# Altium integrated library A_Passive.IntLib: 18 symbols
Pins are listed as number, name and electrical type; pins without a type are passive.

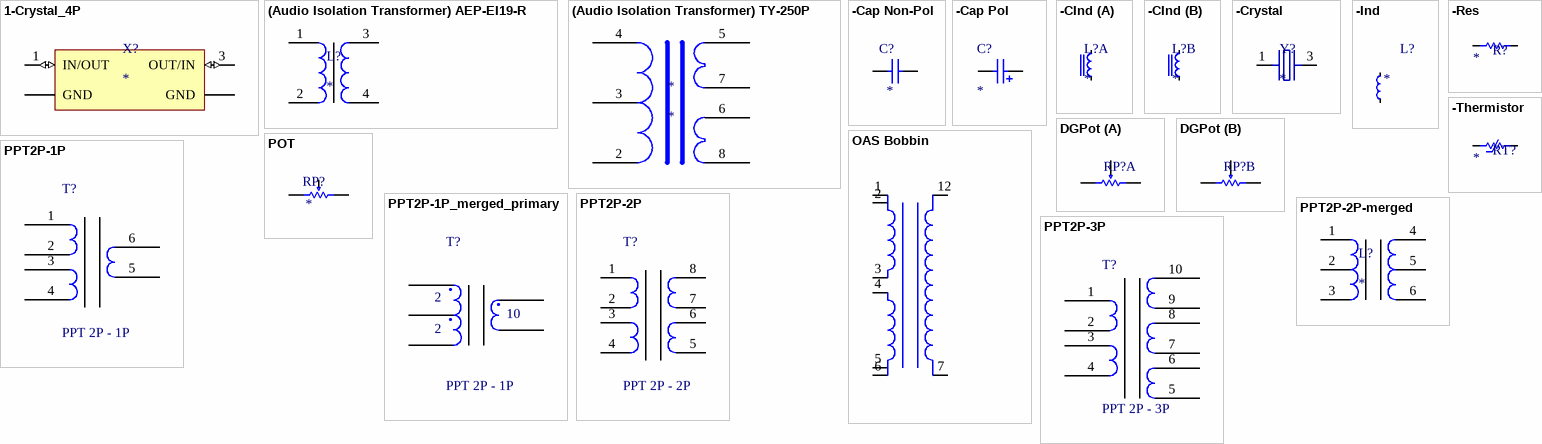
[diagram p0: symbols 1-Crystal_4P to PPT2P-3P]

## 1-Crystal_4P
designator X?
footprint XTAL_ECS-163.84-10-36-JGN-TR
pins: 1 IN/OUT (io), 2 GND (power), 3 OUT/IN (io), 4 GND (power)

## (Audio Isolation Transformer) AEP-EI19-R
designator L?
footprint AEP-EI19-R
pins: 1, 2, 3, 4

## (Audio Isolation Transformer) TY-250P
designator *
footprint TY-250P
pins: 2, 3, 4, 5, 6, 7, 8

## -Cap Non-Pol
designator C?
=Value; Voltage: *; Dielectric: *; Tol: *; Value: *
footprint C-IDK (5mm box - 0805 ceramic)
footprint C_BF_TH_15
footprint Size_0402_L (Chip Resistor, Body 1.0x0.5mm, IPC High Density)
footprint Size_0402_N (Chip Resistor, Body 1.0x0.5mm, IPC Medium Density)
footprint Size_0603_L (Chip Resistor, Body 1.6x0.8mm, IPC High Density)
footprint Size_0603_N (Chip Resistor, Body 1.6x0.8mm, IPC Medium Density)
footprint Size_0805_L (Chip Resistor, Body 2.0x1.3mm, IPC High Density)
footprint Size_0805_N (Chip Resistor, Body 2.0x1.3mm, IPC Medium Density)
footprint Size_0805_N - ALT (Narrower Pad Width, Chip Resistor, Body 2.0x1.3mm, IPC Medium Density)
footprint Size_1206_L (Chip Resistor, Body 3.2x1.6mm, IPC High Density)
footprint Size_1206_N (Chip Resistor, Body 3.2x1.6mm, IPC Medium Density)
footprint Size_1210_L (Chip Resistor, Body 3.2x2.5mm, IPC High Density)
footprint Size_1210_N (Chip Resistor, Body 3.2x2.5mm, IPC Medium Density)
footprint Size_2010_2512_N
footprint Size_2010_N
footprint Size_2512_N (Chip Resistor, 2-Leads, Body 7.62x3.17mm, IPC Medium Density)
footprint Vishay_HVCC
footprint Size_0402_N2 (Chip Resistor, Body 1.0x0.5mm, IPC Medium Density)
footprint Size_0805_N2 (Narrower Pad Width, Chip Resistor, Body 2.0x1.3mm, IPC Medium Density)
footprint TH-22.5x26Lx11W
footprint TH-15x18.5Lx7.5W
pins: 1, 2

## -Cap Pol
designator C?
CAP, CER; Voltage: *; Value: *
footprint CAP 0603_N (Chip Capacitor, Body 1.6x0.8mm, Height 0.55mm, IPC Medium Density)
footprint CAP 0805_N (Chip Capacitor, Body 2.0x1.2mm, Height 0.75mm, IPC Medium Density)
footprint CAP 1206_N (Chip Capacitor, Body 3.2x1.6mm, Height 0.75mm, IPC Medium Density)
footprint CAP 1210_N (Chip Capacitor, Body 3.2x2.5mm, Height 0.7mm, IPC Medium Density)
footprint CAP 0603_L (Chip Capacitor, Body 1.6x0.8mm, Height 0.55mm, IPC High Density)
footprint CAP 0805_L (Chip Capacitor, Body 2.0x1.2mm, Height 0.75mm, IPC High Density)
footprint CAP 1206_L (Chip Capacitor, Body 3.2x1.6mm, Height 0.75mm, IPC High Density)
footprint CAP 1210_L (Chip Capacitor, Body 3.2x2.5mm, Height 0.7mm, IPC High Density)
footprint CAPAE110103X103N (Aluminum Electrolytic Capacitor, Body 11.00x10.30x10.30mm, IPC Medium Density)
footprint TH_Cap_1.5x4
footprint TH_Cap_1.5x4_wide
footprint TH_Cap_6x11x2.5
footprint TH CAP AL-6.3X11MM-A1K2 (Aluminum Electrolytic Capacitor, Diameter 6.3mm, Height 11mm, Pitch 2.5mm)
footprint TH CAP AL-18X20MM-A1K2 (Aluminum Electrolytic Capacitor, Diameter 18mm, Height 20mm, Pitch 7.5mm)
footprint TH CAP AL-18X20x8x1.1mm (Aluminum Electrolytic Capacitor, Diameter 18mm, Height 20mm, Pitch 7.5mm)
footprint CAP_Pol_18X42_7.5 (Aluminum Electrolytic Capacitor, Diameter 18mm, Height 20mm, Pitch 7.5mm)
footprint CSMD_6.3x7.7
footprint CSMD_5x5.7
pins: 1, 2

## -CInd
designator L?
Irms: *; Isat: *; Value: *
footprint 1inCoupledInductor
part A pins: 1, 4
part B pins: 2, 3

## -Crystal
designator Y?
Value: *
footprint XRCGB_Murata (Crystal)
pins: 1, 3

## -Ind
designator L?
IND; Irms: *; Isat: *; Value: *
footprint RLB0914 (10uH inductor)
footprint INDC2520X12N (Chip Inductor, 2-Leads, Body 2.50x2.00mm, IPC Medium Density)
footprint CR32NP
footprint CDRH2D11
footprint RLB1314 (10uH inductor)
footprint JQO1012 (10uH inductor)
footprint IND-PQ2614B
footprint IND_SRP1770C
footprint IND_74437349
footprint BMRA00050520
footprint 07A7
footprint Size_0805_N (Chip Resistor, Body 2.0x1.3mm, IPC Medium Density)
footprint Size_0603_N (Chip Resistor, Body 1.6x0.8mm, IPC Medium Density)
footprint Size_1206_N (Chip Resistor, Body 3.2x1.6mm, IPC Medium Density)
footprint IND_5024
footprint IND-5x5_wurth
footprint IND_55x55
footprint TH IND 29x15mm (Inductor, ID 18mm, OD 29mm, Height 15mm, 2x16AWG)
footprint BournsSMDInductorWithTH
footprint RLB1314_9mm (10uH inductor)
footprint IND_15x75 (10uH inductor)
footprint IND_1515_Wurth
footprint IND_XAL1060
footprint IND_2.5to4.5
footprint IND_44
footprint IND_3X3
footprint IND_8x8
pins: 1, 2

## -Res
designator R?, comment *, *  (value not drawn)
=Value; Tolerance: 1%; Power: *; Value: *
footprint 280-CR25
footprint SQP10A (Power Resistor Ceramic 48x9.5x9)
footprint Size_0402_L (Chip Resistor, Body 1.0x0.5mm, IPC High Density)
footprint Size_0402_N (Chip Resistor, Body 1.0x0.5mm, IPC Medium Density)
footprint Size_0603_L (Chip Resistor, Body 1.6x0.8mm, IPC High Density)
footprint Size_0603_N (Chip Resistor, Body 1.6x0.8mm, IPC Medium Density)
footprint Size_0805_L (Chip Resistor, Body 2.0x1.3mm, IPC High Density)
footprint Size_0805_N (Chip Resistor, Body 2.0x1.3mm, IPC Medium Density)
footprint Size_0805_N - ALT (Narrower Pad Width, Chip Resistor, Body 2.0x1.3mm, IPC Medium Density)
footprint Size_1206_L (Chip Resistor, Body 3.2x1.6mm, IPC High Density)
footprint Size_1206_N (Chip Resistor, Body 3.2x1.6mm, IPC Medium Density)
footprint Size_1210_L (Chip Resistor, Body 3.2x2.5mm, IPC High Density)
footprint Size_1210_N (Chip Resistor, Body 3.2x2.5mm, IPC Medium Density)
footprint Size_1812_N (Chip Resistor, Body 4.5x3.2mm, IPC Medium Density)
footprint Size_2010_2512_N
footprint Size_2512_N (Chip Resistor, 2-Leads, Body 7.62x3.17mm, IPC Medium Density)
footprint Size_2010_N
footprint R_SM108
footprint Size_0402_N2 (Chip Resistor, Body 1.0x0.5mm, IPC Medium Density)
footprint FP-WSLF25122L000FEA-MFG
footprint Size_0805_N2 (Narrower Pad Width, Chip Resistor, Body 2.0x1.3mm, IPC Medium Density)
pins: 1, 2
1 alternate drawing of the same symbol

## -Thermistor
designator RT?
=Value; Tolerance: 1%; Type: *; Value: *
footprint 280-CR25
footprint SQP10A (Power Resistor Ceramic 48x9.5x9)
footprint Size_0402_L (Chip Resistor, Body 1.0x0.5mm, IPC High Density)
footprint Size_0402_N (Chip Resistor, Body 1.0x0.5mm, IPC Medium Density)
footprint Size_0603_L (Chip Resistor, Body 1.6x0.8mm, IPC High Density)
footprint Size_0603_N (Chip Resistor, Body 1.6x0.8mm, IPC Medium Density)
footprint Size_0805_L (Chip Resistor, Body 2.0x1.3mm, IPC High Density)
footprint Size_0805_N (Chip Resistor, Body 2.0x1.3mm, IPC Medium Density)
footprint Size_0805_N - ALT (Narrower Pad Width, Chip Resistor, Body 2.0x1.3mm, IPC Medium Density)
footprint Size_1206_L (Chip Resistor, Body 3.2x1.6mm, IPC High Density)
footprint Size_1206_N (Chip Resistor, Body 3.2x1.6mm, IPC Medium Density)
footprint Size_1210_L (Chip Resistor, Body 3.2x2.5mm, IPC High Density)
footprint Size_1210_N (Chip Resistor, Body 3.2x2.5mm, IPC Medium Density)
footprint Size_1812_N (Chip Resistor, Body 4.5x3.2mm, IPC Medium Density)
footprint Size_2010_2512_N
footprint Size_2512_N (Chip Resistor, 2-Leads, Body 7.62x3.17mm, IPC Medium Density)
footprint Size_2010_N
footprint R_SM108
footprint Size_0402_N2 (Chip Resistor, Body 1.0x0.5mm, IPC Medium Density)
footprint FP-WSLF25122L000FEA-MFG
footprint Size_0805_N2 (Narrower Pad Width, Chip Resistor, Body 2.0x1.3mm, IPC Medium Density)
footprint TH-100mil-Therm
pins: 1, 2
1 alternate drawing of the same symbol

## DGPot
designator RP?  (value not drawn)
Resistance: *
footprint Bourns PTD902
footprint POT-SHORT_IQ
footprint VerticaPot_DualGang (PTV112-4420A or Similar to HS8); pin to pad 1>1A 2>2A 3>3A 4>1B 5>2B 6>3B
footprint POT-VertHor
part A pins: 1, 2, 3
part B pins: 4, 5, 6

## OAS Bobbin
designator T1, comment Transformer Core: Mag-Inc ZF41606TC or equivalent  Primary Winding: Primary Winding: 8 Turns using 26 gauge wire bifilar winding  Secondary Winding: Secondary Winding: 26 Turns using 30 gauge wire single winding.  (hidden comment: ZF41606TC or Equivalent Core, 8:26 Turns Ratio)
OAS Bobbin / Transformer Primary Turns: 8 (bifilar winding), Secondary Turns: 27 Turns; AL Value: 1920 (nH/T^2); ComponentLink1Description: DataSheet; ComponentLink1URL: https://www.mag-inc.com/Media/Magnetics/Datasheets/ZF41606TC.pdf
footprint OAS_BOBBIN
pins: 1, 2, 3, 4, 5, 6, 7, 12

## POT
designator RP?, comment Resistor  (value not drawn)
Value: *
footprint POT-Inline
footprint POT-TrimmerHighPower
footprint BOUR-TC33X-2_V (SMD, 3-Leads, Body 3.8x3.6mm)
footprint POT-Inline_smd
pins: 1, 2, 3
1 alternate drawing of the same symbol

## PPT2P-1P
designator T?, comment PPT 2P - 1P
footprint DPSP Transformer (12.7 x 8.14 x 6.35mm Toroid AE = 14.2mm2)
footprint DPSS TRANSFORMER BOB
pins: 1, 2, 3, 4, 5, 6

## PPT2P-1P_merged_primary
designator T?, comment PPT 2P - 1P  P1: 2  S: 10
P2: 2
footprint DPSS TRANSFORMER BOB
pins: 1, 2, 3, 4, 5

## PPT2P-2P
designator T?, comment PPT 2P - 2P
footprint DPDP transformer (12.7 x 8.14 x 6.35mm Toroid AE = 14.2mm2)
pins: 1, 2, 3, 4, 5, 6, 7, 8

## PPT2P-2P-merged
designator L?
footprint PH9085
pins: 1, 2, 3, 4, 5, 6

## PPT2P-3P
designator T?, comment PPT 2P - 3P
pins: 1, 2, 3, 4, 5, 6, 7, 8, 9, 10